# EAGLE library part 2X03 (library Ai_Connectors)
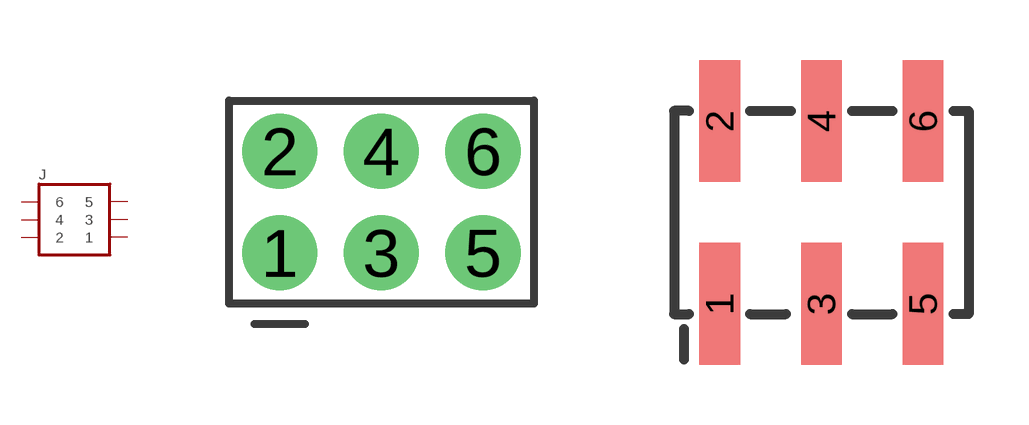
[diagram p5: symbol with the pads of 2X03; footprints 2X03, 2X3-SMT]

Designator prefix J

## 2X03  [2X03]
1  1
2  2
3  3
4  4
5  5
6  6

## 2X03SMT  [2X3-SMT]
Pads as for 2X03

## 2X032X03-ICSP  [2X03-ICSP]
Pads as for 2X03

## 2X032X03-ICSP-SMALL  [2X03-ICSP-SMALL]
Pads as for 2X03

## Footprint 2X03 (pad centres in mm)
drill 1.016 pad 1.88: 1 -2.54,-1.27; 2 -2.54,1.27; 3 0,-1.27; 4 0,1.27; 5 2.54,-1.27; 6 2.54,1.27

## Footprint 2X3-SMT (pad centres in mm)
4UCON 15881 Male .1" spaced SMT Keying posts into board
smd 1.016 x 3.048: 1 -2.54,-2.286; 2 -2.54,2.286; 3 0,-2.286; 4 0,2.286; 5 2.54,-2.286; 6 2.54,2.286

## Footprint 2X03-ICSP (pad centres in mm)
drill 1.016 pad 1.88: 1 -2.54,-1.27; 2 -2.54,1.27; 3 0,-1.27; 4 0,1.27; 5 2.54,-1.27; 6 2.54,1.27

## Footprint 2X03-ICSP-SMALL (pad centres in mm)
drill 0.813 pad 1.422: 1 -2.54,-1.27; 2 -2.54,1.27; 3 0,-1.27; 4 0,1.27; 5 2.54,-1.27; 6 2.54,1.27